# Altium footprint library SOD123.PcbLib: 2 footprints
Each footprint in its own frame and in the unit in brackets; x right, y up, seen from the top. Pads: shape width x height; smd on the part's side, far side on the other; paste and mask are expansions set on the pad; w line width, h text height; cw(c..) or ccw(c..) is an arc to the next point about the centre after c.
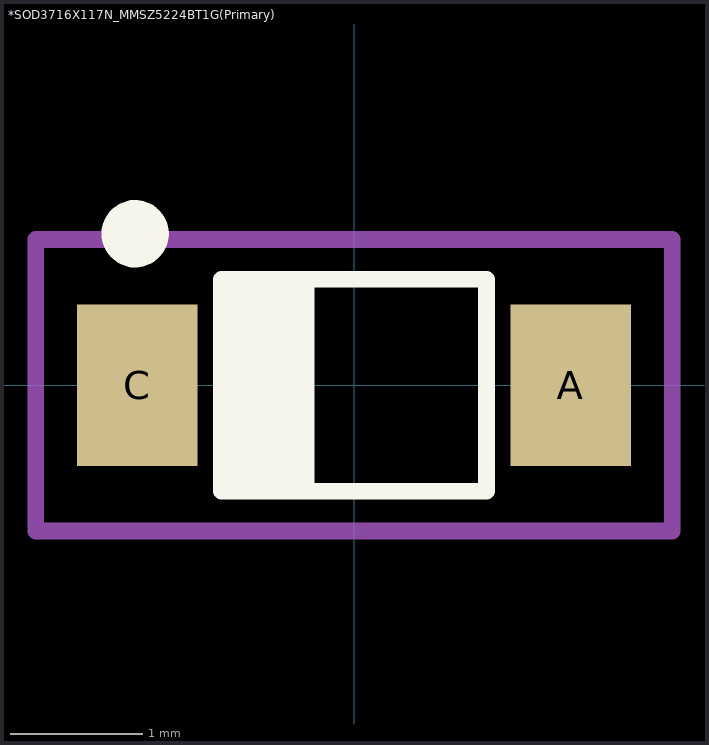
[diagram p0: the footprints below, top view; thin cyan lines are the x and y axes]

## *SOD3716X117N_MMSZ5224BT1G(Primary) [mm]
pads (2):
  rect 0.91x1.22 smd: A(1.635,0) C(-1.635,0)
Top Overlay:
  circle w0.254: c-1.651,1.143 r0.127
  region: -1.001,0.8 -0.3,0.8 -0.3,-0.8 -1.001,-0.8
  lines w0.127: -1,-0.8 1,-0.8 1,0.8 -1,0.8 -1,-0.8
Mechanical 16:
  lines w0.127: -2.4,-1.1 -2.4,1.1 2.4,1.1 2.4,-1.1 -2.4,-1.1
3D body "SOD123.step": height 0.8, standoff -0.01, extent -1.925,-0.675 1.925,0.675

## PCBComponent_1 [mm]